# EAGLE library part UCC12041-Q1 (library Harrington-ICs v130)
5-3.3V Isolated DC/DC Converter Texas Instruments - ±1000V CDM - ±3000V HBM
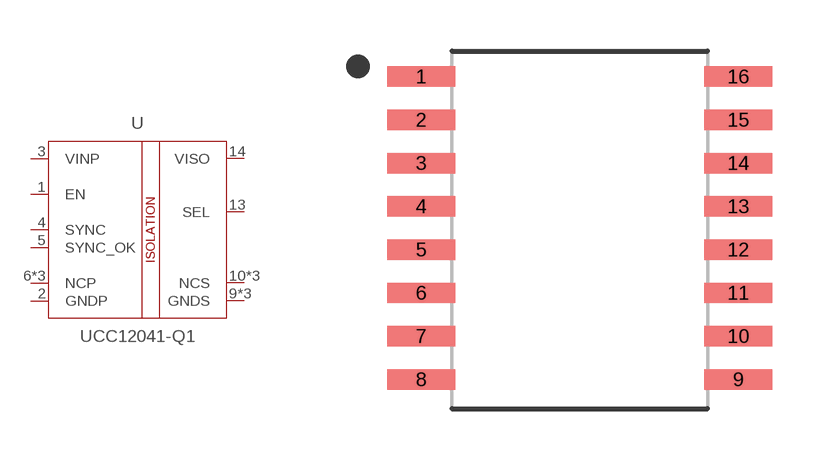
[diagram p17: symbol with the pads of SOIC-16; footprint SOIC-16]

Designator prefix U

## UCC12041-Q1  [SOIC-16]
1  EN  in
2  GNDP  pwr
3  VINP  pwr
4  SYNC  in
5  SYNC_OK  out
6  NCP  nc
7  NCP  nc
8  NCP  nc
9  GNDS  pwr
10  NCS  nc
11  NCS  nc
12  NCS  nc
13  SEL  in
14  VISO  pwr
15  GNDS  pwr
16  GNDS  pwr

## Footprint SOIC-16 (pad centres in mm)
smd 2 x 0.6: 1 -4.65,4.5; 2 -4.65,3.23; 3 -4.65,1.96; 4 -4.65,0.69; 5 -4.65,-0.58; 6 -4.65,-1.85; 7 -4.65,-3.12; 8 -4.65,-4.39; 9 4.65,-4.39; 10 4.65,-3.12; 11 4.65,-1.85; 12 4.65,-0.58; 13 4.65,0.69; 14 4.65,1.96; 15 4.65,3.23; 16 4.65,4.5